# Altium schematic symbol library STM32H563VIT6.SchLib: 2 symbols
Pins are listed as number, name and electrical type; pins without a type are passive.

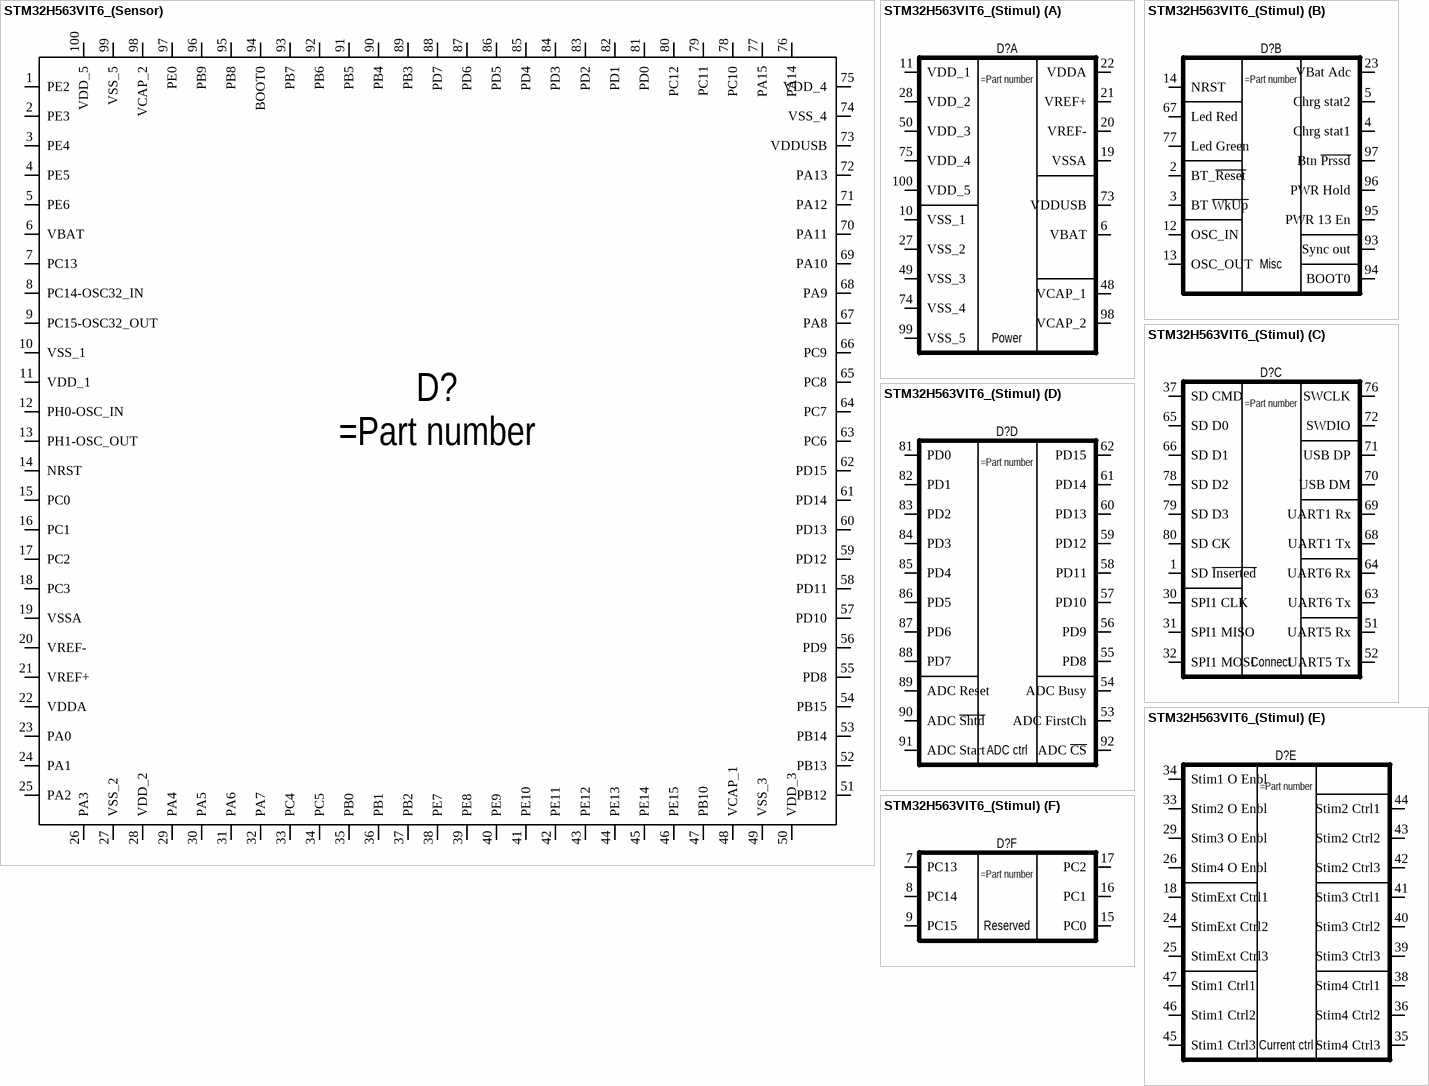
[diagram p0: symbols STM32H563VIT6_(Sensor) to STM32H563VIT6_(Stimul)]

## STM32H563VIT6_(Sensor)
designator D?
High-performance, Arm Cortex-M33 MCU
pins: 1 PE2, 2 PE3, 3 PE4, 4 PE5, 5 PE6, 6 VBAT, 7 PC13, 8 PC14-OSC32_IN, 9 PC15-OSC32_OUT, 10 VSS_1, 11 VDD_1, 12 PH0-OSC_IN, 13 PH1-OSC_OUT, 14 NRST, 15 PC0, 16 PC1, 17 PC2, 18 PC3, 19 VSSA, 20 VREF-, 21 VREF+, 22 VDDA, 23 PA0, 24 PA1, 25 PA2, 26 PA3, 27 VSS_2, 28 VDD_2, 29 PA4, 30 PA5, 31 PA6, 32 PA7, 33 PC4, 34 PC5, 35 PB0, 36 PB1, 37 PB2, 38 PE7, 39 PE8, 40 PE9, 41 PE10, 42 PE11, 43 PE12, 44 PE13, 45 PE14, 46 PE15, 47 PB10, 48 VCAP_1, 49 VSS_3, 50 VDD_3, 51 PB12, 52 PB13, 53 PB14, 54 PB15, 55 PD8, 56 PD9, 57 PD10, 58 PD11, 59 PD12, 60 PD13, 61 PD14, 62 PD15, 63 PC6, 64 PC7, 65 PC8, 66 PC9, 67 PA8, 68 PA9, 69 PA10, 70 PA11, 71 PA12, 72 PA13, 73 VDDUSB, 74 VSS_4, 75 VDD_4, 76 PA14, 77 PA15, 78 PC10, 79 PC11, 80 PC12, 81 PD0, 82 PD1, 83 PD2, 84 PD3, 85 PD4, 86 PD5, 87 PD6, 88 PD7, 89 PB3, 90 PB4, 91 PB5, 92 PB6, 93 PB7, 94 BOOT0, 95 PB8, 96 PB9, 97 PE0, 98 VCAP_2, 99 VSS_5, 100 VDD_5

## STM32H563VIT6_(Stimul)
designator D?
High-performance, Arm Cortex-M33 MCU
part A pins: 6 VBAT, 10 VSS_1, 11 VDD_1, 19 VSSA, 20 VREF-, 21 VREF+, 22 VDDA, 27 VSS_2, 28 VDD_2, 48 VCAP_1, 49 VSS_3, 50 VDD_3, 73 VDDUSB, 74 VSS_4, 75 VDD_4, 98 VCAP_2, 99 VSS_5, 100 VDD_5
part B pins: 2 BT_~{Reset}, 3 BT ~{WkUp}, 4 Chrg stat1, 5 Chrg stat2, 12 OSC_IN, 13 OSC_OUT, 14 NRST, 23 VBat Adc, 67 Led Red, 77 Led Green, 93 Sync out, 94 BOOT0, 95 PWR 13 En, 96 PWR Hold, 97 Btn ~{Prssd}
part C pins: 1 SD ~{Inserted}, 30 SPI1 CLK, 31 SPI1 MISO, 32 SPI1 MOSI, 37 SD CMD, 51 UART5 Rx, 52 UART5 Tx, 63 UART6 Tx, 64 UART6 Rx, 65 SD D0, 66 SD D1, 68 UART1 Tx, 69 UART1 Rx, 70 USB DM, 71 USB DP, 72 SWDIO, 76 SWCLK, 78 SD D2, 79 SD D3, 80 SD CK
part D pins: 53 ADC FirstCh, 54 ADC Busy, 55 PD8, 56 PD9, 57 PD10, 58 PD11, 59 PD12, 60 PD13, 61 PD14, 62 PD15, 81 PD0, 82 PD1, 83 PD2, 84 PD3, 85 PD4, 86 PD5, 87 PD6, 88 PD7, 89 ADC Reset, 90 ADC ~{Shtd}, 91 ADC Start, 92 ADC ~{CS}
part E pins: 18 StimExt Ctrl1, 24 StimExt Ctrl2, 25 StimExt Ctrl3, 26 Stim4 O Enbl, 29 Stim3 O Enbl, 33 Stim2 O Enbl, 34 Stim1 O Enbl, 35 Stim4 Ctrl3, 36 Stim4 Ctrl2, 38 Stim4 Ctrl1, 39 Stim3 Ctrl3, 40 Stim3 Ctrl2, 41 Stim3 Ctrl1, 42 Stim2 Ctrl3, 43 Stim2 Ctrl2, 44 Stim2 Ctrl1, 45 Stim1 Ctrl3, 46 Stim1 Ctrl2, 47 Stim1 Ctrl1
part F pins: 7 PC13, 8 PC14, 9 PC15, 15 PC0, 16 PC1, 17 PC2
part A text: Power
part B text: Misc
part C text: Connect
part D text: ADC ctrl
part E text: Current ctrl
part F text: Reserved